# EAGLE library part KS2E (library Tinkercad)
CONTACT TYPE : DPDT COIL RATING : 5 to 48 VDC Datasheet <https://omronfs.omron.com/en_US/ecb/products/pdf/en-g2rl.pdf>
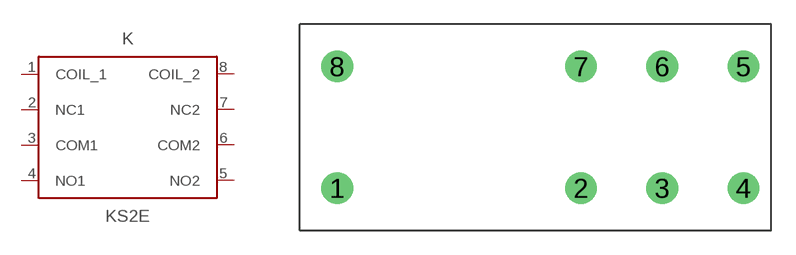
[diagram p40: symbol with the pads of G2RL-2; footprint G2RL-2]

Designator prefix K

## KS2E (CATEGORY: RELAY; MANUFACTURER: KEST; MPN: KS2E-M-DC5; OPERATING_TEMP: -25°C to 55°C; SERIES: KS2E; SUB-CATEGORY: Power Relay; TYPE: DPDT)  [G2RL-2]
1  COIL_1
2  NC1
3  COM1
4  NO1
5  NO2
6  COM2
7  NC2
8  COIL_2

## Footprint G2RL-2 (pad centres in mm)
drill 1.3: 1 0,0; 2 15,0; 3 20,0; 4 25,0; 5 25,7.5; 6 20,7.5; 7 15,7.5; 8 0,7.5